# EAGLE library part MRF24J40MA (library microchip_mrf24j40ma)
mrf24j40ma
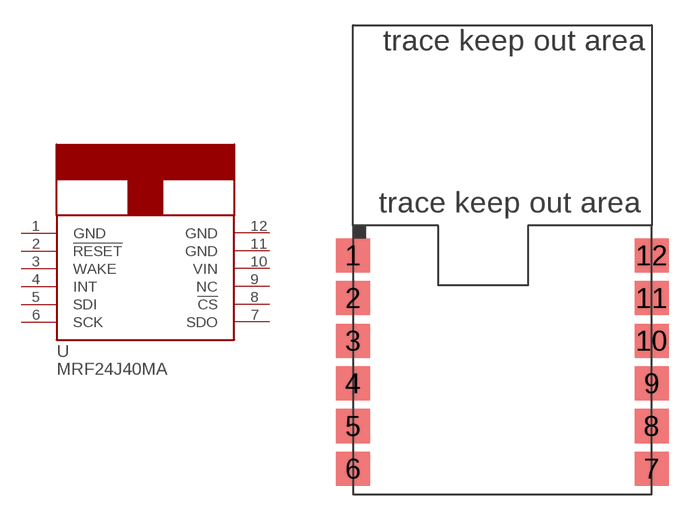
[diagram p0: symbol with the pads of MRF24J40MA; footprint MRF24J40MA]

Designator prefix -

## MRF24J40MA  [MRF24J40MA]
1  GND
2  !RESET
3  WAKE
4  INT
5  SDI
6  SCK
7  SDO
8  !CS
9  NC
10  VIN
11  GND
12  GND

## Footprint MRF24J40MA (pad centres in mm)
mrf24j40ma
smd 2.032 x 2.032: 1 0,14.224; 2 0,11.684; 3 0,9.144; 4 0,6.604; 5 0,4.064; 6 0,1.524; 7 17.78,1.524; 8 17.78,4.064; 9 17.78,6.604; 10 17.78,9.144; 11 17.78,11.684; 12 17.78,14.224